# Altium footprint library Push Button.PcbLib: 1 footprints
Each footprint in its own frame and in the unit in brackets; x right, y up, seen from the top. Pads: shape width x height; smd on the part's side, far side on the other; paste and mask are expansions set on the pad; w line width, h text height; cw(c..) or ccw(c..) is an arc to the next point about the centre after c.
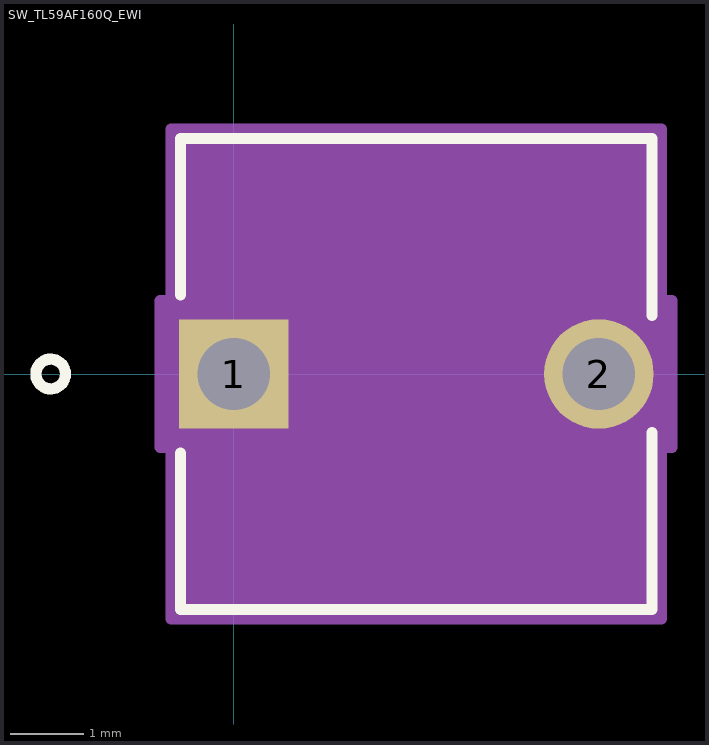
[diagram p0: the footprint, top view; thin cyan lines are the x and y axes]

## SW_TL59AF160Q_EWI [mil]
pads (2):
  rect 59x59 / inner round 60 / far side rect 59x59 hole 39 paste-29.5 mask+0: 1(0,0)
  round 59 / inner round 60 / far side round 59 hole 39 paste-29.5 mask+0: 2(196.85,0)
Top Overlay:
  circle w6: c-98.57,0 r8
  lines w6: -28.57,-42.6 -28.57,-127 225.43,-127 225.43,-31.59 ; -28.57,42.6 -28.57,127 225.43,127 225.43,31.59
Mechanical 13:
  circle w6: c-23.57,100 r8
  circle w0: c98.43,0 r69
  lines w1: -23.57,-122 220.43,-122 220.43,122 -23.57,122 -23.57,-122 ; -23.57,-19.5 -23.57,19.5 -19.5,19.5 -19.5,-19.5 -23.57,-19.5 ; 216.35,-19.5 220.43,-19.5 220.43,19.5 216.35,19.5 216.35,-19.5
Mechanical 15:
  region: -33.57,-39.5 -39.5,-39.5 -39.5,39.5 -33.57,39.5 -33.57,132 230.43,132 230.43,39.5 236.35,39.5 236.35,-39.5 230.43,-39.5 230.43,-132 -33.57,-132
  lines w6: -39.5,-39.5 -39.5,39.5 -33.57,39.5 -33.57,132 230.43,132 230.43,39.5 236.35,39.5 236.35,-39.5 230.43,-39.5 230.43,-132 -33.57,-132 -33.57,-39.5 -39.5,-39.5